# EAGLE library part ML6 (library N__con-harting-ml)
HARTING
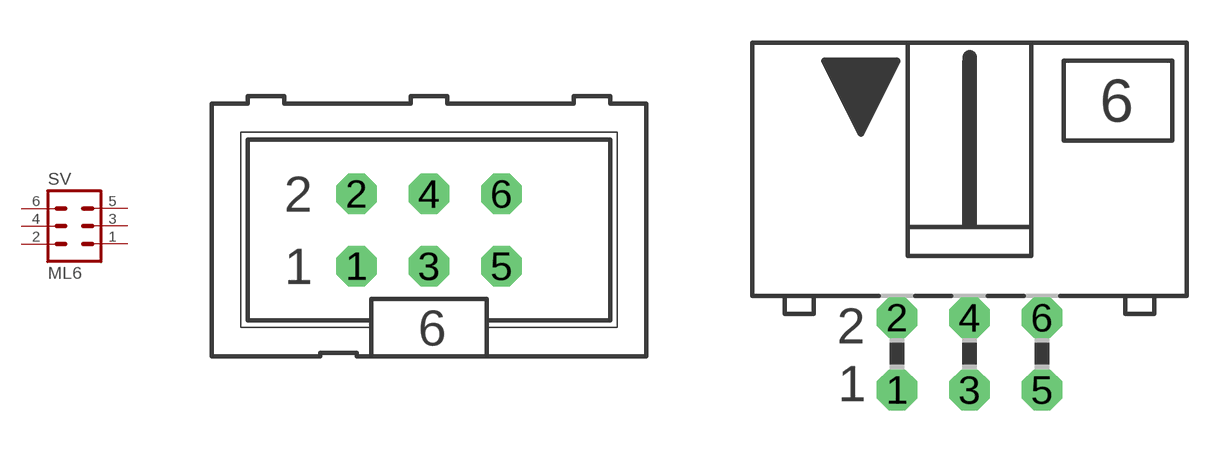
[diagram p7: symbol with the pads of ML6; footprints ML6, ML6L]

Designator prefix SV

## ML6 (OC_FARNELL: unknown; OC_NEWARK: unknown)  [ML6]
1  1  pas
2  2  pas
3  3  pas
4  4  pas
5  5  pas
6  6  pas

## ML6L (OC_FARNELL: unknown; OC_NEWARK: unknown)  [ML6L]
Pads as for ML6

## Footprint ML6 (pad centres in mm)
HARTING
drill 0.914 octagon: 1 -2.54,-1.27; 2 -2.54,1.27; 3 0,-1.27; 4 0,1.27; 5 2.54,-1.27; 6 2.54,1.27

## Footprint ML6L (pad centres in mm)
HARTING
drill 0.914 octagon: 1 -2.54,-1.27; 2 -2.54,1.27; 3 0,-1.27; 4 0,1.27; 5 2.54,-1.27; 6 2.54,1.27